# Altium footprint library DM3AT-SF-PEJM5.PcbLib: 1 footprints
Each footprint in its own frame and in the unit in brackets; x right, y up, seen from the top. Pads: shape width x height; smd on the part's side, far side on the other; paste and mask are expansions set on the pad; w line width, h text height; cw(c..) or ccw(c..) is an arc to the next point about the centre after c.
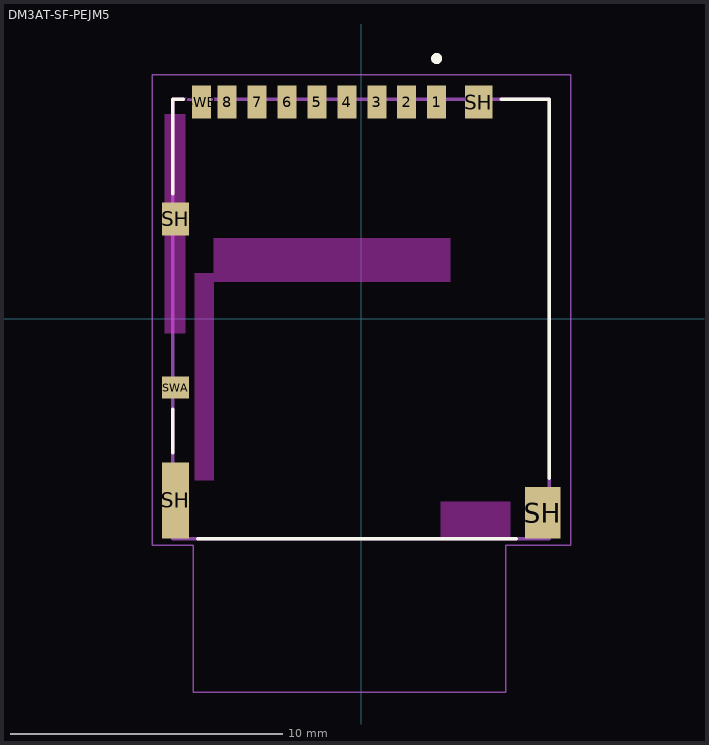
[diagram p0: the footprint, top view; thin cyan lines are the x and y axes]

## DM3AT-SF-PEJM5 [mm]
height 1.83
pads (14):
  rect 0.7x1.2 smd paste+0 mask+0.102: 1(2.775,7.975) 2(1.675,7.975) 3(0.575,7.975) 4(-0.525,7.975) 5(-1.625,7.975) 6(-2.725,7.975) 7(-3.825,7.975) 8(-4.925,7.975) SWB(-5.875,7.975)
  rect 1x2.8 smd paste+0 mask+0.102: SH(-6.825,-6.675)
  rect 1x1.2 smd paste+0 mask+0.102: SH(-6.825,3.675) SH(4.325,7.975)
  rect 1.3x1.9 smd paste+0 mask+0.102: SH(6.675,-7.125)
  rect 1x0.8 smd paste+0 mask+0.102: SWA(-6.825,-2.525)
Top Overlay:
  circle w0.2: c2.775,9.575 r0.1
  lines w0.127: -6.925,-4.925 -6.925,-3.325 ; -6.925,4.595 -6.925,8.075 -6.545,8.075 ; -6.005,-8.075 5.705,-8.075 ; 5.145,8.075 6.925,8.075 6.925,-5.855
Keep-Out Layer:
  region: -6.475,4.275 -7.225,4.275 -7.225,7.525 -6.475,7.525
  region: -6.475,-0.525 -7.225,-0.525 -7.225,3.075 -6.475,3.075
  region: -5.425,-5.925 -6.125,-5.925 -6.125,1.675 -5.425,1.675
  region: 3.275,1.375 -5.425,1.375 -5.425,2.975 3.275,2.975
  region: 5.475,-8.075 2.925,-8.075 2.925,-6.725 5.475,-6.725
Assembly Top:
  circle w0.2: c2.775,9.575 r0.1
  lines w0.127: -6.925,-8.075 6.925,-8.075 6.925,8.075 -6.925,8.075 -6.925,-8.075
  text "PCB Edge" at -2.45,-7.75 h0.61
Courtyard Top:
  lines w0.05: -7.675,-8.325 -6.175,-8.325 -6.175,-13.725 5.325,-13.725 5.325,-8.325 7.7,-8.325 7.7,8.975 -7.675,8.975 -7.675,-8.325
3D body "step_temp.STEP": height 1.68, standoff 0, extent -6.925,-8.075 6.925,8.075